# EAGLE library part TL-2230-SWITCH (library E-SWITCH_6PIN)
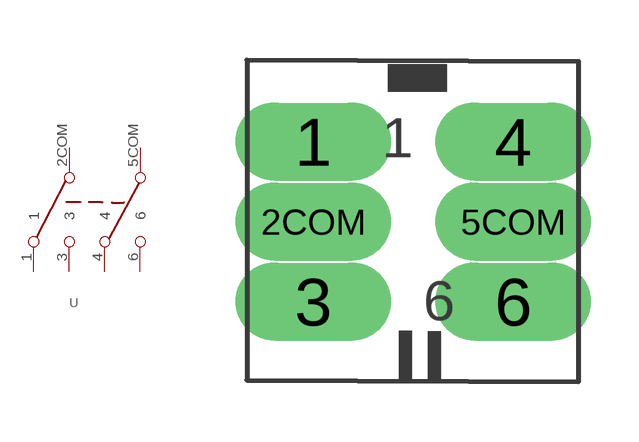
[diagram p0: symbol with the pads of E-SWITH-6-PIN; footprint E-SWITH-6-PIN]

Designator prefix -

## TL-2230-SWITCH  [E-SWITH-6-PIN]
1  1
2COM  2
3  3
4  4
5COM  5
6  6

## Footprint E-SWITH-6-PIN (pad centres in mm)
drill 1.3 pad 1.524 long: 1 -2.635,2; 2COM -2.635,0; 3 -2.635,-2; 4 2.365,2; 5COM 2.365,0; 6 2.365,-2